# Altium footprint library kemet_r75_40x90x130x100.PcbLib: 1 footprints
Each footprint in its own frame and in the unit in brackets; x right, y up, seen from the top. Pads: shape width x height; smd on the part's side, far side on the other; paste and mask are expansions set on the pad; w line width, h text height; cw(c..) or ccw(c..) is an arc to the next point about the centre after c.
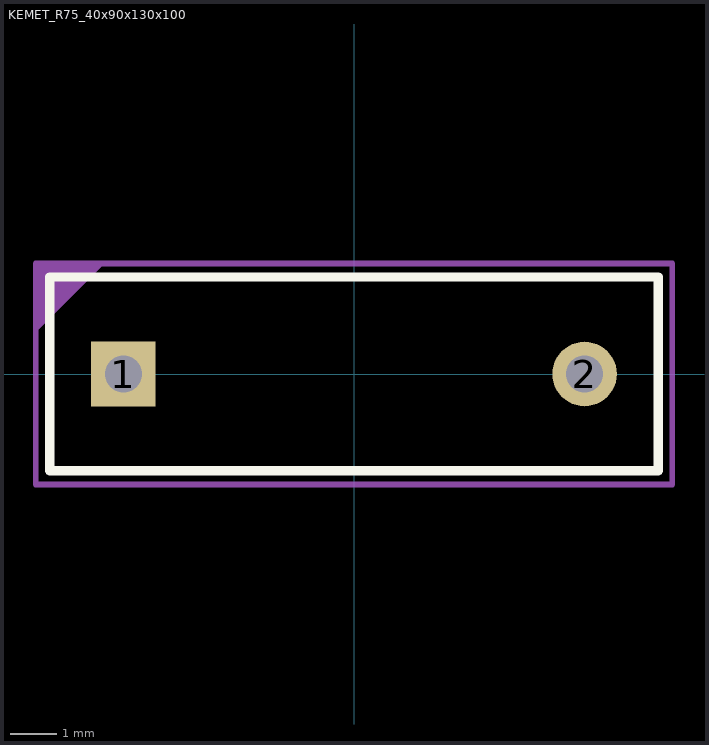
[diagram p0: the footprint, top view; thin cyan lines are the x and y axes]

## KEMET_R75_40x90x130x100 [mm]
height 9
pads (2):
  rect 1.4x1.4 hole 0.8: 1(-5,0)
  round 1.4 hole 0.8: 2(5,0)
Top Overlay:
  lines w0.2: -6.6,-2.1 6.6,-2.1 6.6,2.105 -6.6,2.105 -6.6,-2.1
Top 3D Body:
  lines w0.127: -6.6,-2.1 6.6,-2.1 6.6,2.105 -6.6,2.105 -6.6,-2.1
Top Courtyard:
  region: -6.9,2.4 -5.4,2.4 -6.9,0.9
  lines w0.127: -6.9,-2.4 6.9,-2.4 6.9,2.4 -6.9,2.4 -6.9,-2.4
Top Designator:
  text ".Designator" at -1.38,-0.18 h0.6
3D body "R75PF21004030J.step": height 9.11, standoff -34.99, extent -6.6,-2.1 6.6,2.105